# Altium footprint library ELL6 Choke.PcbLib: 1 footprints
Each footprint in its own frame and in the unit in brackets; x right, y up, seen from the top. Pads: shape width x height; smd on the part's side, far side on the other; paste and mask are expansions set on the pad; w line width, h text height; cw(c..) or ccw(c..) is an arc to the next point about the centre after c.
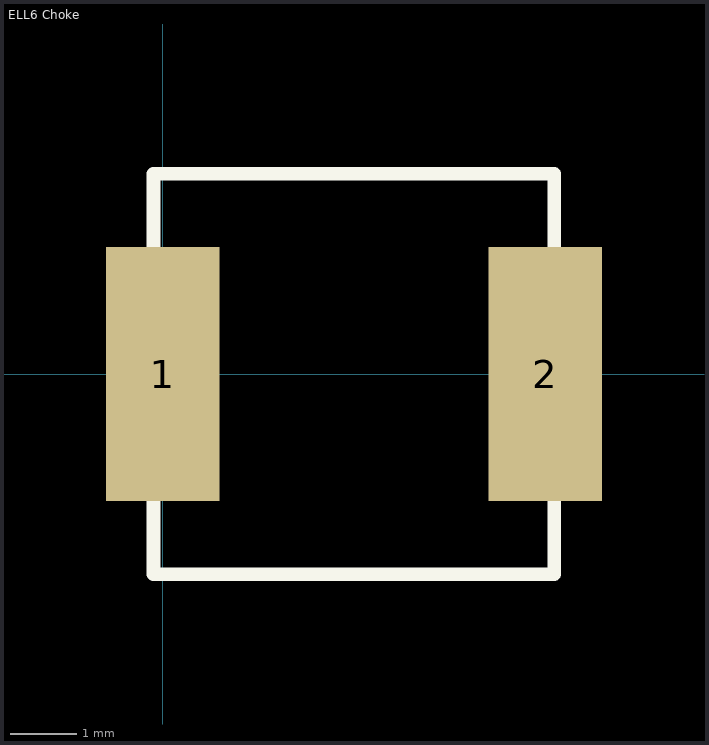
[diagram p0: the footprint, top view; thin cyan lines are the x and y axes]

## ELL6 Choke [mm]
pads (2):
  rect 1.7x3.8 smd: 1(0,0) 2(5.724,0)
Top Overlay:
  lines w0.203: -0.138,-3 5.862,-3 5.862,3 2.862,3 -0.138,3 -0.138,-3
3D body: height 3, standoff 0, extent -0.138,-3 5.862,3